# Altium footprint library Switch^Relay.PcbLib: 10 footprints
Each footprint in its own frame and in the unit in brackets; x right, y up, seen from the top. Pads: shape width x height; smd on the part's side, far side on the other; paste and mask are expansions set on the pad; w line width, h text height; cw(c..) or ccw(c..) is an arc to the next point about the centre after c.
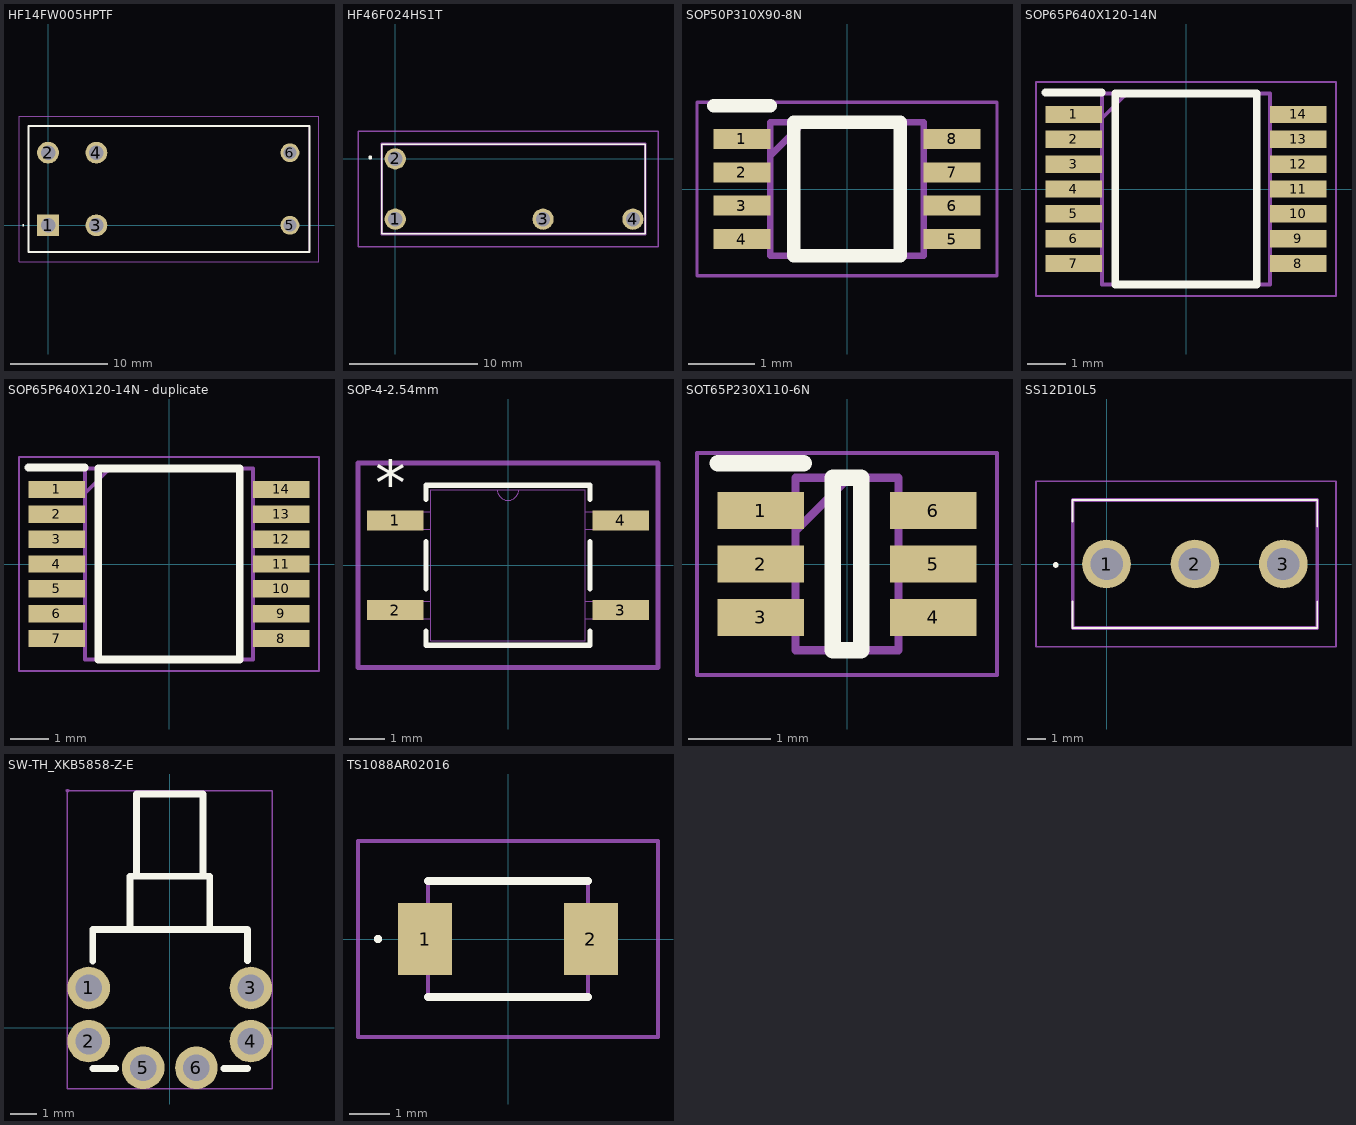
[diagram p0: the footprints below, top view; thin cyan lines are the x and y axes]

## HF14FW005HPTF [mm]
pads (6):
  rect 2.25x2.25 hole 1.5: 1(0,0)
  round 2.25 hole 1.5: 2(0,7.5) 3(5,0) 4(5,7.5)
  round 1.95 hole 1.3: 5(25,0) 6(25,7.5)
Top Overlay:
  lines w0.1: -2.6,0 ccw(c-2.55,0) -2.5,0 ccw(c-2.55,0) -2.6,0
  lines w0.2: -2,-2.75 -2,10.25 27,10.25 27,-2.75 -2,-2.75
Mechanical 13:
  lines w0.1: -2,-2.75 -2,10.25 27,10.25 27,-2.75 -2,-2.75
Mechanical 15:
  lines w0.1: -3,-3.75 -3,11.25 28,11.25 28,-3.75 -3,-3.75
3D body "HF14FW_005-HPTF.stp": height 26.6, standoff -5, extent -2,-2.75 27,10.25

## HF46F024HS1T [mm]
pads (4):
  round 1.65 hole 1.1: 1(0,-4.7) 2(0,0) 3(11.5,-4.7) 4(18.5,-4.7)
Top Overlay:
  lines w0.1: -1.05,-5.85 19.45,-5.85 19.45,1.15 -1.05,1.15 -1.05,-5.85
  lines w0.2: -2,0.1 cw(c-1.95,0.1) -1.9,0.1 ; -2,0.1 ccw(c-1.95,0.1) -1.9,0.1 ; -2,0.1 cw(c-1.95,0.1) -1.9,0.1
Mechanical 13:
  lines w0.2: -1.05,-5.85 19.45,-5.85 19.45,1.15 -1.05,1.15 -1.05,-5.85
Mechanical 15:
  lines w0.1: -2.9,-6.85 20.45,-6.85 20.45,2.15 -2.9,2.15 -2.9,-6.85
3D body "HF46F_024-HS1T.stp": height 15.7, standoff -5, extent -1.05,-5.85 19.45,1.15

## SOP50P310X90-8N [mm]
pads (8):
  rect 0.85x0.3 smd: 1(-1.575,0.75) 2(-1.575,0.25) 3(-1.575,-0.25) 4(-1.575,-0.75) 5(1.575,-0.75) 6(1.575,-0.25) 7(1.575,0.25) 8(1.575,0.75)
Top Overlay:
  lines w0.2: -2,1.25 -1.15,1.25 ; -0.8,-1 0.8,-1 0.8,1 -0.8,1 -0.8,-1
Mechanical 13:
  lines w0.1: -1.15,0.5 -0.65,1 ; -1.15,-1 1.15,-1 1.15,1 -1.15,1 -1.15,-1
Mechanical 15:
  lines w0.05: -2.25,-1.3 2.25,-1.3 2.25,1.3 -2.25,1.3 -2.25,-1.3
3D body "TXS0102DCUR.stp": height 0.77, standoff 0, extent -1.55,-1 1.55,1

## SOP65P640X120-14N [mm]
pads (14):
  rect 1.475x0.45 smd: 1(-2.938,1.95) 2(-2.938,1.3) 3(-2.938,0.65) 4(-2.938,0) 5(-2.938,-0.65) 6(-2.938,-1.3) 7(-2.938,-1.95) 8(2.938,-1.95) 9(2.938,-1.3) 10(2.938,-0.65) 11(2.938,0) 12(2.938,0.65) 13(2.938,1.3) 14(2.938,1.95)
Top Overlay:
  lines w0.2: -3.675,2.525 -2.2,2.525 ; -1.85,-2.5 1.85,-2.5 1.85,2.5 -1.85,2.5 -1.85,-2.5
Mechanical 13:
  lines w0.1: -2.2,1.85 -1.55,2.5 ; -2.2,-2.5 2.2,-2.5 2.2,2.5 -2.2,2.5 -2.2,-2.5
Mechanical 15:
  lines w0.05: -3.925,-2.8 3.925,-2.8 3.925,2.8 -3.925,2.8 -3.925,-2.8
3D body "TXS0104EPWR.stp": height 1.13, standoff 0, extent -3.2,-2.5 3.2,2.5

## SOP65P640X120-14N - duplicate [mm]
pads (14):
  rect 1.475x0.45 smd: 1(-2.938,1.95) 2(-2.938,1.3) 3(-2.938,0.65) 4(-2.938,0) 5(-2.938,-0.65) 6(-2.938,-1.3) 7(-2.938,-1.95) 8(2.938,-1.95) 9(2.938,-1.3) 10(2.938,-0.65) 11(2.938,0) 12(2.938,0.65) 13(2.938,1.3) 14(2.938,1.95)
Top Overlay:
  lines w0.2: -3.675,2.525 -2.2,2.525 ; -1.85,-2.5 -1.85,2.5 1.85,2.5 1.85,-2.5 -1.85,-2.5
Mechanical 13:
  lines w0.1: -2.2,1.85 -1.55,2.5 ; -2.2,-2.5 -2.2,2.5 2.2,2.5 2.2,-2.5 -2.2,-2.5
Mechanical 15:
  lines w0.05: -3.925,-2.8 -3.925,2.8 3.925,2.8 3.925,-2.8 -3.925,-2.8
3D body "TXB0104PWR.stp": height 1, standoff 0, extent -3.21,-2.5 3.21,2.5

## SOP-4-2.54mm [mil]
pads (4):
  rect 63x22 smd paste+0 mask+0: 1(-126,50) 2(-126,-50) 3(126,-50) 4(126,50)
Top Overlay:
  lines w6: -91.5,-73.75 -91.5,-89.5 91.5,-89.5 91.5,-73.75 ; -91.5,-26.25 -91.5,26.25 ; -91.5,73.75 -91.5,89.5 91.5,89.5 91.5,73.75 ; 91.5,-26.25 91.5,26.25
  text "*" at -148.5,67 h50
Mechanical 13:
  lines w0: -12,84.5 ccw(c0,84.5) 12,84.5
  lines w1: -143.5,-60 -86.5,-60 -86.5,-40 -143.5,-40 -143.5,-60 ; -143.5,40 -86.5,40 -86.5,60 -143.5,60 -143.5,40 ; -86.5,-84.5 -86.5,84.5 86.5,84.5 86.5,-84.5 -86.5,-84.5 ; 86.5,-60 143.5,-60 143.5,-40 86.5,-40 86.5,-60 ; 86.5,40 143.5,40 143.5,60 86.5,60 86.5,40
  text "*" at -84,31.5 h50
Mechanical 15:
  lines w6: -167.5,-114.19 -96.5,-114.19 96.5,-114.19 167.5,-114.19 167.5,114.19 96.5,114.19 -96.5,114.19 -167.5,114.19 -167.5,-114.19
3D body "EL357NCTA-VG_EVE.step": height 79.09, standoff 0, extent -143.5,-84.49 143.5,84.49

## SOT65P230X110-6N [mm]
pads (6):
  rect 1.05x0.45 smd: 1(-1.05,0.65) 2(-1.05,0) 3(-1.05,-0.65) 4(1.05,-0.65) 5(1.05,0) 6(1.05,0.65)
Top Overlay:
  lines w0.2: -1.575,1.225 -0.525,1.225 ; -0.175,-1.05 -0.175,1.05 0.175,1.05 0.175,-1.05 -0.175,-1.05
Mechanical 13:
  lines w0.1: -0.625,0.4 0.025,1.05 ; -0.625,-1.05 -0.625,1.05 0.625,1.05 0.625,-1.05 -0.625,-1.05
Mechanical 15:
  lines w0.05: -1.825,-1.35 -1.825,1.35 1.825,1.35 1.825,-1.35 -1.825,-1.35
3D body "SGM3157YC6_TR.stp": height 1.1, standoff 0, extent -1.15,-1.05 1.15,1.05

## SS12D10L5 [mm]
pads (3):
  round 2.59 hole 1.726: 1(0,0) 2(4.7,0) 3(9.4,0)
Top Overlay:
  lines w0.1: -1.8,-3.4 11.2,-3.4 ; -1.8,-3.4 11.2,-3.4 ; -1.8,-3.4 -1.8,-2 -1.8,-3.4 ; -1.8,3.4 -1.8,2.25 -1.8,3.4 ; -1.8,3.4 11.2,3.4 ; -1.8,3.4 11.2,3.4 ; 11.2,-3.4 11.2,-2 11.2,-3.4 ; 11.2,3.4 11.2,2 11.2,3.4
  lines w0.2: -2.7,-0.1 ccw(c-2.7,-0.05) -2.7,0 ; -2.7,-0.1 cw(c-2.7,-0.05) -2.7,0 ; -2.7,-0.1 ccw(c-2.7,-0.05) -2.7,0
Mechanical 13:
  lines w0.2: -1.8,-3.4 11.2,-3.4 11.2,3.4 -1.8,3.4 -1.8,-3.4
Mechanical 15:
  lines w0.1: -3.75,-4.4 12.2,-4.4 12.2,4.4 -3.75,4.4 -3.75,-4.4
3D body "SS-12D10L5.stp": height 11.4, standoff -6.9, extent -1.8,-3.4 11.2,3.4

## SW-TH_XKB5858-Z-E [mm]
pads (6):
  round 1.6 hole 1: 1(-3.05,1.5) 2(-3.05,-0.5) 3(3.05,1.5) 4(3.05,-0.5) 5(-1,-1.5) 6(1,-1.5)
Top Overlay:
  lines w0.254: -2.9,-1.52 -2.9,-1.524 -2.031,-1.524 ; -2.9,2.52 -2.9,3.7 2.9,3.7 ; -1.5,3.7 -1.5,5.7 1.5,5.7 1.5,3.7 ; -1.25,5.7 -1.25,8.8 1.25,8.8 1.25,5.7 ; 2.031,-1.524 2.921,-1.524 2.921,-1.523 ; 2.921,2.523 2.921,3.7
Mechanical 15:
  region: -2.65,1.5 -2.651,1.579 -2.713,1.724 -2.825,1.835 -2.971,1.894 -3.129,1.894 -3.275,1.835 -3.387,1.724 -3.449,1.579 -3.45,1.5 -3.449,1.421 -3.387,1.276 -3.275,1.166 -3.129,1.106 -2.971,1.106 -2.825,1.165 -2.713,1.276 -2.651,1.421 -2.65,1.5
  region: -2.65,-0.5 -2.651,-0.421 -2.713,-0.276 -2.825,-0.165 -2.971,-0.106 -3.129,-0.106 -3.275,-0.165 -3.387,-0.276 -3.449,-0.421 -3.45,-0.5 -3.449,-0.579 -3.387,-0.724 -3.275,-0.834 -3.129,-0.894 -2.971,-0.894 -2.825,-0.835 -2.713,-0.724 -2.651,-0.579 -2.65,-0.5
  region: 3.45,1.5 3.449,1.579 3.387,1.724 3.275,1.835 3.129,1.894 2.971,1.894 2.825,1.835 2.713,1.724 2.651,1.579 2.65,1.5 2.651,1.421 2.713,1.276 2.825,1.166 2.971,1.106 3.129,1.106 3.275,1.165 3.387,1.276 3.449,1.421 3.45,1.5
  region: 3.45,-0.5 3.449,-0.421 3.387,-0.276 3.275,-0.165 3.129,-0.106 2.971,-0.106 2.825,-0.165 2.713,-0.276 2.651,-0.421 2.65,-0.5 2.651,-0.579 2.713,-0.724 2.825,-0.834 2.971,-0.894 3.129,-0.894 3.275,-0.835 3.387,-0.724 3.449,-0.579 3.45,-0.5
  region: -0.6,-1.5 -0.601,-1.421 -0.663,-1.276 -0.775,-1.165 -0.921,-1.106 -1.079,-1.106 -1.225,-1.165 -1.337,-1.276 -1.399,-1.421 -1.4,-1.5 -1.399,-1.579 -1.337,-1.724 -1.225,-1.834 -1.079,-1.894 -0.921,-1.894 -0.775,-1.835 -0.663,-1.724 -0.601,-1.579 -0.6,-1.5
  region: 1.4,-1.5 1.399,-1.421 1.337,-1.276 1.225,-1.165 1.079,-1.106 0.921,-1.106 0.775,-1.165 0.663,-1.276 0.601,-1.421 0.6,-1.5 0.601,-1.579 0.663,-1.724 0.775,-1.834 0.921,-1.894 1.079,-1.894 1.225,-1.835 1.337,-1.724 1.399,-1.579 1.4,-1.5
  region: -3.79,8.927 -3.79,8.952 -3.825,8.987 -3.875,8.987 -3.91,8.952 -3.91,8.927 -3.91,8.902 -3.875,8.867 -3.825,8.867 -3.79,8.902 -3.79,8.927
  lines w0.051: -3.85,-2.3 -3.85,8.927 3.85,8.927 3.85,-2.3 -3.85,-2.3

## TS1088AR02016 [mm]
pads (2):
  rect 1.35x1.8 smd: 1(-2.075,0) 2(2.075,0)
Top Overlay:
  lines w0.1: -3.3,0 cw(c-3.25,0) -3.2,0 cw(c-3.25,0) -3.3,0
  lines w0.2: -2,-1.45 2,-1.45 ; -2,1.45 2,1.45
Mechanical 13:
  lines w0.1: -2,-1.45 2,-1.45 2,1.45 -2,1.45 -2,-1.45
Mechanical 15:
  lines w0.1: -3.75,-2.45 3.75,-2.45 3.75,2.45 -3.75,2.45 -3.75,-2.45
3D body "TS-1088-AR02016.stp": height 2.1, standoff 0, extent -2.615,-1.45 2.615,1.45